# EAGLE library part 24LC256 (library OSSI)
24LC256 256K I2C™ CMOS Serial EEPROM
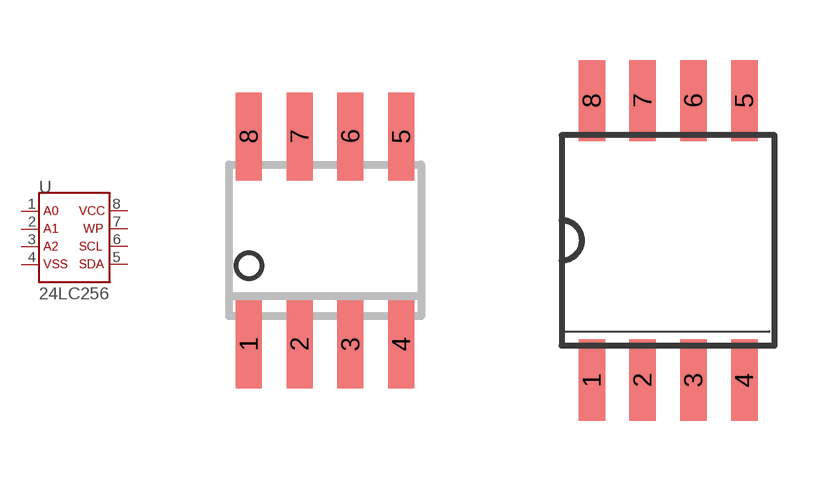
[diagram p44: symbol with the pads of SO8; footprints SO8, SO08-208]

Designator prefix U

## 24LC256  [SO8]
1  P$1
2  P$2
3  P$3
4  P$4
5  P$5
6  P$6
7  P$7
8  P$8

## 24LC256-8LEAD  [SO08-208]
Pads as for SO8

## Footprint SO8 (pad centres in mm)
smd 0.65 x 2.2: 1 -1.905,-2.6; 2 -0.635,-2.6; 3 0.635,-2.6; 4 1.905,-2.6; 5 1.905,2.6; 6 0.635,2.6; 7 -0.635,2.6; 8 -1.905,2.6

## Footprint SO08-208 (pad centres in mm)
SOIC .208" 8 LEAD Source: http://pdfserv.maxim-ic.com/package_dwgs/G4010-001.PDF
smd 0.66 x 2.032: 1 -1.905,-3.498; 2 -0.635,-3.498; 3 0.635,-3.498; 4 1.905,-3.498; 5 1.905,3.498; 6 0.635,3.498; 7 -0.635,3.498; 8 -1.905,3.498